# Altium footprint library Lib_foot_Radar.PcbLib: 80 footprints (part 5 of 5)
Each footprint in its own frame and in the unit in brackets; x right, y up, seen from the top. Pads: shape width x height; smd on the part's side, far side on the other; paste and mask are expansions set on the pad; w line width, h text height; cw(c..) or ccw(c..) is an arc to the next point about the centre after c.
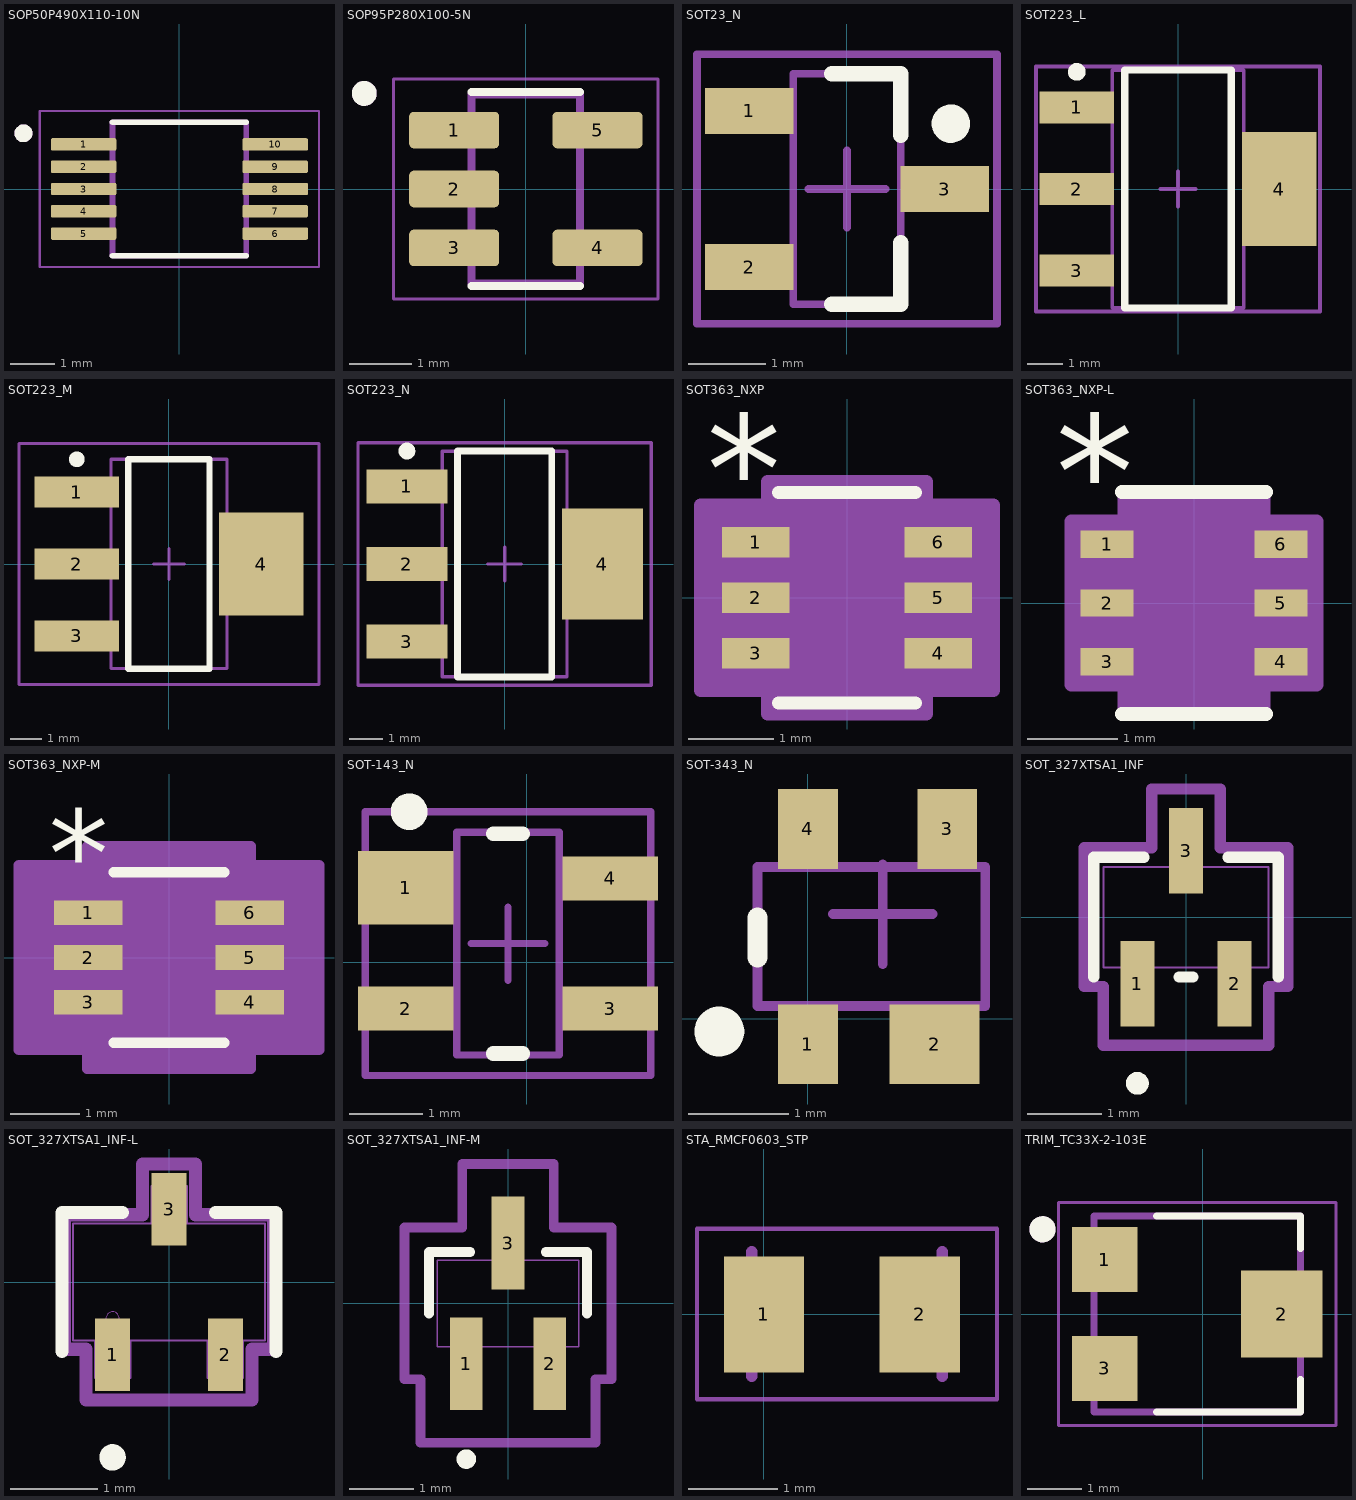
[diagram p4: the footprints below, top view; thin cyan lines are the x and y axes]

## SOP50P490X110-10N [mm]
pads (10):
  rrect25% 1.47x0.28 smd mask+0: 1(-2.15,1) 2(-2.15,0.5) 3(-2.15,0) 4(-2.15,-0.5) 5(-2.15,-1) 6(2.15,-1) 7(2.15,-0.5) 8(2.15,0) 9(2.15,0.5) 10(2.15,1)
Top Overlay:
  circle w0.2: c-3.5,1.25 r0.1
  lines w0.127: -1.5,-1.5 1.5,-1.5 ; -1.5,1.5 1.5,1.5
Mechanical 13:
  circle w0.2: c-3.5,1.25 r0.1
  lines w0.127: -1.5,-1.5 1.5,-1.5 1.5,1.5 -1.5,1.5 -1.5,-1.5
Mechanical 15:
  lines w0.05: -3.135,-1.75 3.135,-1.75 3.135,1.75 -3.135,1.75 -3.135,-1.75
3D body "LMP7712MM.step": height 1.1, standoff 0, extent -2.5,-1.5 2.4,1.5

## SOP95P280X100-5N [mm]
pads (5):
  rrect25% 1.45x0.59 smd: 1(-1.155,0.95) 2(-1.155,0) 3(-1.155,-0.95) 4(1.155,-0.95) 5(1.155,0.95)
Top Overlay:
  circle w0.2: c-2.605,1.54 r0.1
  lines w0.127: -0.875,-1.565 0.875,-1.565 ; -0.875,1.565 0.875,1.565
Mechanical 13:
  circle w0.2: c-2.605,1.54 r0.1
  lines w0.127: -0.875,-1.525 -0.875,1.525 0.875,1.525 0.875,-1.525 -0.875,-1.525
Mechanical 15:
  lines w0.05: -2.13,-1.775 -2.13,1.775 2.13,1.775 2.13,-1.775 -2.13,-1.775

## SOT23_N [mm]
pads (3):
  rect 1.15x0.6 smd: 1(-1.27,1.016) 2(-1.27,-1.016) 3(1.27,0)
Top Overlay:
  circle w0.25: c1.35,0.85 r0.125
  lines w0.2: -0.2,-1.5 0.7,-1.5 0.7,-0.7 ; -0.2,1.5 0.7,1.5 0.7,0.7
Mechanical 13:
  lines w0.1: -0.7,-1.5 0.7,-1.5 0.7,1.5 -0.7,1.5 -0.7,-1.5
Mechanical 15:
  lines w0.1: -0.5,0 0.5,0 ; 0,-0.5 0,0.5 ; -1.95,-1.75 1.95,-1.75 1.95,1.75 -1.95,1.75 -1.95,-1.75
3D body: height 1.1, standoff 0, extent -0.7,-1.5 0.7,1.5

## SOT223_L [mm] "SOT223, 4-Leads, Body 6.5x3.5mm, Pitch 2.3mm, Lead Span 7mm, IPC High Density"
height 1.7
pads (4):
  rect 2.1x0.9 smd: 1(-2.85,2.3) 2(-2.85,0) 3(-2.85,-2.3)
  rect 2.1x3.2 smd: 4(2.85,0)
Top Overlay:
  circle w0.25: c-2.85,3.3 r0.125
  lines w0.2: -1.5,-3.35 -1.5,3.35 1.5,3.35 1.5,-3.35 -1.5,-3.35
Mechanical 13:
  lines w0.1: -1.85,-3.35 -1.85,3.35 1.85,3.35 1.85,-3.35 -1.85,-3.35
Mechanical 15:
  lines w0.1: -0.5,0 0.5,0 ; 0,-0.5 0,0.5 ; -4,-3.45 -4,3.45 4,3.45 4,-3.45 -4,-3.45
3D body: height 1.7, standoff 0, extent -1.85,-3.35 1.85,3.35

## SOT223_M [mm] "SOT223, 4-Leads, Body 6.5x3.5mm, Pitch 2.3mm, Lead Span 7mm, IPC Low Density"
height 1.7
pads (4):
  rect 2.7x1 smd: 1(-2.95,2.3) 2(-2.95,0) 3(-2.95,-2.3)
  rect 2.7x3.3 smd: 4(2.95,0)
Top Overlay:
  circle w0.25: c-2.95,3.35 r0.125
  lines w0.2: -1.3,-3.35 -1.3,3.35 1.3,3.35 1.3,-3.35 -1.3,-3.35
Mechanical 13:
  lines w0.1: -1.85,-3.35 -1.85,3.35 1.85,3.35 1.85,-3.35 -1.85,-3.35
Mechanical 15:
  lines w0.1: -0.5,0 0.5,0 ; 0,-0.5 0,0.5 ; -4.8,-3.85 -4.8,3.85 4.8,3.85 4.8,-3.85 -4.8,-3.85
3D body: height 1.7, standoff 0, extent -1.85,-3.35 1.85,3.35

## SOT223_N [mm] "SOT223, 4-Leads, Body 6.5x3.5mm, Pitch 2.3mm, Lead Span 7mm, IPC Medium Density"
height 1.7
pads (4):
  rect 2.4x1 smd: 1(-2.9,2.3) 2(-2.9,0) 3(-2.9,-2.3)
  rect 2.4x3.3 smd: 4(2.9,0)
Top Overlay:
  circle w0.25: c-2.9,3.35 r0.125
  lines w0.2: -1.4,-3.35 -1.4,3.35 1.4,3.35 1.4,-3.35 -1.4,-3.35
Mechanical 13:
  lines w0.1: -1.85,-3.35 -1.85,3.35 1.85,3.35 1.85,-3.35 -1.85,-3.35
Mechanical 15:
  lines w0.1: -0.5,0 0.5,0 ; 0,-0.5 0,0.5 ; -4.35,-3.6 -4.35,3.6 4.35,3.6 4.35,-3.6 -4.35,-3.6
3D body: height 1.7, standoff 0, extent -1.85,-3.35 1.85,3.35

## SOT363_NXP [mil]
pads (6):
  rect 31x14 smd paste+0 mask+0: 1(-42,25.59) 2(-42,0) 3(-42,-25.59) 4(42,-25.59) 5(42,0) 6(42,25.59)
Top Overlay:
  lines w6: -31.5,-48.5 31.5,-48.5 ; -31.5,48.5 31.5,48.5
  text "*" at -64.5,34.59 h50
Mechanical 13:
  lines w0: -12,43.5 ccw(c0,43.5) 12,43.5
  lines w1: -43.5,-31.59 -26.5,-31.59 -26.5,-19.59 -43.5,-19.59 -43.5,-31.59 ; -43.5,-6 -26.5,-6 -26.5,6 -43.5,6 -43.5,-6 ; -43.5,19.59 -26.5,19.59 -26.5,31.59 -43.5,31.59 -43.5,19.59 ; -26.5,-43.5 -26.5,43.5 26.5,43.5 26.5,-43.5 -26.5,-43.5 ; 26.5,-31.59 43.5,-31.59 43.5,-19.59 26.5,-19.59 26.5,-31.59 ; 26.5,-6 43.5,-6 43.5,6 26.5,6 26.5,-6 ; 26.5,19.59 43.5,19.59 43.5,31.59 26.5,31.59 26.5,19.59
  text "*" at -24,-9.5 h50
Mechanical 15:
  region: -36.5,-42.59 -67.5,-42.59 -67.5,42.59 -36.5,42.59 -36.5,53.5 36.5,53.5 36.5,42.59 67.5,42.59 67.5,-42.59 36.5,-42.59 36.5,-53.5 -36.5,-53.5
  lines w6: -67.5,-42.59 -36.5,-42.59 -36.5,-53.5 36.5,-53.5 36.5,-42.59 67.5,-42.59 67.5,42.59 36.5,42.59 36.5,53.5 -36.5,53.5 -36.5,42.59 -67.5,42.59 -67.5,-42.59
3D body "SOT363_NXP.step": height 43.11, standoff 0, extent -43.5,-43.5 43.5,43.5

## SOT363_NXP-L [mil]
pads (6):
  rect 23x12 smd paste+0 mask+0: 1(-38,25.59) 2(-38,0) 3(-38,-25.59) 4(38,-25.59) 5(38,0) 6(38,25.59)
Top Overlay:
  lines w6: -31.5,-48.5 31.5,-48.5 ; -31.5,48.5 31.5,48.5
  text "*" at -60.5,32.59 h50
Mechanical 13:
  lines w0: -12,43.5 ccw(c0,43.5) 12,43.5
  lines w1: -43.5,-31.59 -26.5,-31.59 -26.5,-19.59 -43.5,-19.59 -43.5,-31.59 ; -43.5,-6 -26.5,-6 -26.5,6 -43.5,6 -43.5,-6 ; -43.5,19.59 -26.5,19.59 -26.5,31.59 -43.5,31.59 -43.5,19.59 ; -26.5,-43.5 -26.5,43.5 26.5,43.5 26.5,-43.5 -26.5,-43.5 ; 26.5,-31.59 43.5,-31.59 43.5,-19.59 26.5,-19.59 26.5,-31.59 ; 26.5,-6 43.5,-6 43.5,6 26.5,6 26.5,-6 ; 26.5,19.59 43.5,19.59 43.5,31.59 26.5,31.59 26.5,19.59
  text "*" at -24,-9.5 h50
Mechanical 15:
  region: -30.5,-35.59 -53.5,-35.59 -53.5,35.59 -30.5,35.59 -30.5,47.5 30.5,47.5 30.5,35.59 53.5,35.59 53.5,-35.59 30.5,-35.59 30.5,-47.5 -30.5,-47.5
  lines w6: -53.5,-35.59 -30.5,-35.59 -30.5,-47.5 30.5,-47.5 30.5,-35.59 53.5,-35.59 53.5,35.59 30.5,35.59 30.5,47.5 -30.5,47.5 -30.5,35.59 -53.5,35.59 -53.5,-35.59
3D body "SOT363_NXP.step": height 43.11, standoff 0, extent -43.5,-43.5 43.5,43.5

## SOT363_NXP-M [mil]
pads (6):
  rect 39x14 smd paste+0 mask+0: 1(-46,25.59) 2(-46,0) 3(-46,-25.59) 4(46,-25.59) 5(46,0) 6(46,25.59)
Top Overlay:
  lines w6: -31.5,-48.5 31.5,-48.5 ; -31.5,48.5 31.5,48.5
  text "*" at -68.5,34.59 h50
Mechanical 13:
  lines w0: -12,43.5 ccw(c0,43.5) 12,43.5
  lines w1: -43.5,-31.59 -43.5,-19.59 -26.5,-19.59 -26.5,-31.59 -43.5,-31.59 ; -43.5,-6 -43.5,6 -26.5,6 -26.5,-6 -43.5,-6 ; -43.5,19.59 -43.5,31.59 -26.5,31.59 -26.5,19.59 -43.5,19.59 ; -26.5,-43.5 26.5,-43.5 26.5,43.5 -26.5,43.5 -26.5,-43.5 ; 26.5,-31.59 26.5,-19.59 43.5,-19.59 43.5,-31.59 26.5,-31.59 ; 26.5,-6 26.5,6 43.5,6 43.5,-6 26.5,-6 ; 26.5,19.59 26.5,31.59 43.5,31.59 43.5,19.59 26.5,19.59
  text "*" at -24,-9.5 h50
Mechanical 15:
  region: -46.5,-52.59 -85.5,-52.59 -85.5,52.59 -46.5,52.59 -46.5,63.5 46.5,63.5 46.5,52.59 85.5,52.59 85.5,-52.59 46.5,-52.59 46.5,-63.5 -46.5,-63.5
  lines w6: -85.5,-52.59 -85.5,52.59 -46.5,52.59 -46.5,63.5 46.5,63.5 46.5,52.59 85.5,52.59 85.5,-52.59 46.5,-52.59 46.5,-63.5 -46.5,-63.5 -46.5,-52.59 -85.5,-52.59
3D body "SOT363_NXP.step": height 43.11, standoff 0, extent -43.5,-43.5 43.5,43.5

## SOT-143_N [mm] "SOT143, 4-Leads, Body 2.9x1.3mm, Pitch 1.9mm, Lead Span 2.5mm, IPC Medium Density"
height 1.1
pads (4):
  rect 1.3x1 smd: 1(-1.651,1.016)
  rect 1.3x0.6 smd: 2(-1.651,-0.635) 3(1.143,-0.635) 4(1.143,1.143)
Top Overlay:
  circle w0.25: c-1.604,2.054 r0.125
  lines w0.2: -0.454,-1.246 -0.054,-1.246 ; -0.454,1.754 -0.054,1.754
Mechanical 13:
  lines w0.1: -0.954,-1.266 0.446,-1.266 0.446,1.774 -0.954,1.774 -0.954,-1.266
Mechanical 15:
  lines w0.1: -0.754,0.254 0.246,0.254 ; -0.254,-0.246 -0.254,0.754 ; -2.204,-1.546 1.696,-1.546 1.696,2.054 -2.204,2.054 -2.204,-1.546
3D body: height 1.1, standoff 0, extent -0.954,-1.266 0.446,1.774

## SOT-343_N [mm] "SOT143, 4-Leads, Body 2.9x1.3mm, Pitch 1.9mm, Lead Span 2.5mm, IPC Medium Density"
height 1.1
pads (4):
  rect 0.6x0.8 smd: 1(0,-0.254) 3(1.397,1.905) 4(0,1.905)
  rect 0.9x0.8 smd: 2(1.27,-0.254)
Top Overlay:
  circle w0.25: c-0.889,-0.127 r0.125
  lines w0.2: -0.508,0.616 -0.508,1.016
Mechanical 13:
  lines w0.1: -0.508,0.127 1.778,0.127 1.778,1.524 -0.508,1.524 -0.508,0.127
Mechanical 15:
  lines w0.1: 0.25,1.05 1.25,1.05 ; 0.75,0.55 0.75,1.55
3D body: height 1.1, standoff 0, extent -0.508,0.062 1.778,1.462

## SOT_327XTSA1_INF [mil]
pads (3):
  rect 18x45 smd paste+0 mask+0: 1(-25.59,-35) 2(25.59,-35) 3(0,35)
Top Overlay:
  circle w6: c-25.59,-87.5 r3
  lines w6: -48.5,-31.5 -48.5,31.5 -22.1,31.5 ; -3.49,-31.5 3.49,-31.5 ; 22.1,31.5 48.5,31.5 48.5,-31.5
Mechanical 13:
  circle w0: c-25.59,-16.5 r3
  lines w1: -43.5,-26.5 -43.5,26.5 43.5,26.5 43.5,-26.5 -43.5,-26.5 ; -33.59,-43.5 -17.59,-43.5 -17.59,-26.5 -33.59,-26.5 -33.59,-43.5 ; -8,26.5 -8,43.5 8,43.5 8,26.5 -8,26.5 ; 17.59,-43.5 33.59,-43.5 33.59,-26.5 17.59,-26.5 17.59,-43.5
Mechanical 15:
  lines w6: -53.5,-36.5 -43.59,-36.5 -43.59,-67.5 43.59,-67.5 43.59,-36.5 53.5,-36.5 53.5,36.5 18,36.5 18,67.5 -18,67.5 -18,36.5 -53.5,36.5 -53.5,-36.5
3D body "SOT_327XTSA1_INF.step": height 39.09, standoff 0, extent -43.5,-43.5 43.5,43.5

## SOT_327XTSA1_INF-L [mil]
pads (3):
  rect 16x33 smd paste+0 mask+0: 1(-25.59,-33) 2(25.59,-33) 3(0,33)
Top Overlay:
  circle w6: c-25.59,-79.5 r3
  lines w6: -48.5,-31.5 -48.5,31.5 -21.1,31.5 ; 21.1,31.5 48.5,31.5 48.5,-31.5
Mechanical 13:
  circle w0: c-25.59,-16.5 r3
  lines w1: -43.5,-26.5 43.5,-26.5 43.5,26.5 -43.5,26.5 -43.5,-26.5 ; -33.59,-43.5 -33.59,-26.5 -17.59,-26.5 -17.59,-43.5 -33.59,-43.5 ; -8,26.5 8,26.5 8,43.5 -8,43.5 -8,26.5 ; 17.59,-43.5 17.59,-26.5 33.59,-26.5 33.59,-43.5 17.59,-43.5
Mechanical 15:
  lines w6: -47.5,-30.5 -47.5,30.5 -12,30.5 -12,53.5 12,53.5 12,30.5 47.5,30.5 47.5,-30.5 37.59,-30.5 37.59,-53.5 -37.59,-53.5 -37.59,-30.5 -47.5,-30.5
3D body "SOT_327XTSA1_INF.step": height 39.09, standoff 0, extent -43.5,-43.5 43.5,43.5

## SOT_327XTSA1_INF-M [mil]
pads (3):
  rect 20x57 smd paste+0 mask+0: 1(-25.59,-37) 2(25.59,-37) 3(0,37)
Top Overlay:
  circle w6: c-25.59,-95.5 r3
  lines w6: -48.5,-6.27 -48.5,31.5 -23.1,31.5 ; 23.1,31.5 48.5,31.5 48.5,-6.27
Mechanical 13:
  circle w0: c-25.59,-16.5 r3
  lines w1: -43.5,-26.5 43.5,-26.5 43.5,26.5 -43.5,26.5 -43.5,-26.5 ; -33.59,-43.5 -33.59,-26.5 -17.59,-26.5 -17.59,-43.5 -33.59,-43.5 ; -8,26.5 8,26.5 8,43.5 -8,43.5 -8,26.5 ; 17.59,-43.5 17.59,-26.5 33.59,-26.5 33.59,-43.5 17.59,-43.5
Mechanical 15:
  lines w6: -63.5,-46.5 -63.5,46.5 -28,46.5 -28,85.5 28,85.5 28,46.5 63.5,46.5 63.5,-46.5 53.59,-46.5 53.59,-85.5 -53.59,-85.5 -53.59,-46.5 -63.5,-46.5
3D body "SOT_327XTSA1_INF.step": height 39.09, standoff 0, extent -43.5,-43.5 43.5,43.5

## STA_RMCF0603_STP [mm]
pads (2):
  rect 0.9x1.3 smd: 1(0,0) 2(1.75,0)
Mechanical 13:
  lines w0.127: -0.137,-0.695 -0.137,0.705 ; 2.003,-0.695 2.003,0.705
Mechanical 15:
  lines w0.05: -0.752,-0.955 2.618,-0.955 2.618,0.965 -0.752,0.965 -0.752,-0.955
3D body "STA_RMCF0603_STP.step": height 0.56, standoff 0, extent 0.076,-0.465 1.778,0.475

## TRIM_TC33X-2-103E [mm]
pads (3):
  rect 1.2x1.2 smd: 1(-1.8,1) 3(-1.8,-1)
  rect 1.5x1.6 smd: 2(1.45,0)
Top Overlay:
  circle w0.24: c-2.946,1.558 r0.12
  lines w0.127: -0.85,-1.8 1.8,-1.8 1.8,-1.2 ; -0.85,1.8 1.8,1.8 1.8,1.2
Mechanical 13:
  circle w0.24: c-2.946,1.558 r0.12
  lines w0.127: -2,-1.8 -2,1.8 1.8,1.8 1.8,-1.8 -2,-1.8
Mechanical 15:
  lines w0.05: -2.65,-2.05 -2.65,2.05 2.45,2.05 2.45,-2.05 -2.65,-2.05
3D body "step_temp.STEP": height 1.1, standoff -0.1, extent -1.5,-1.9 1.5,1.9